# Altium schematic symbol library IRFR5410TRPBF.Schlib: 1 symbol
Pins are listed as number, name and electrical type; pins without a type are passive.

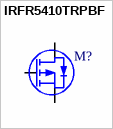
[diagram p0: symbol IRFR5410TRPBF]

## IRFR5410TRPBF
designator M?
100V 13A P-Channel
pins: 1 G, 3 S, 4 D